# Altium schematic symbol library XAL6060-562MEB.SchLib: 2 symbols
Pins are listed as number, name and electrical type; pins without a type are passive.

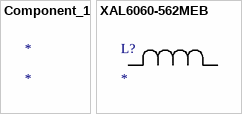
[diagram p0: symbols Component_1 to XAL6060-562MEB]

## Component_1
designator *

## XAL6060-562MEB
designator L?
No Description Available; Mfr_Name: Coilcraft
footprint IND_XAL6060_COC
pins: 1, 2